# EAGLE library part 74HC4050D,653 (library 74HC4050D_653)
NEXPERIA - 74HC4050D,653 - LEVEL SHIFTER, NON INVERTING, SOIC-16 Source: Datasheet
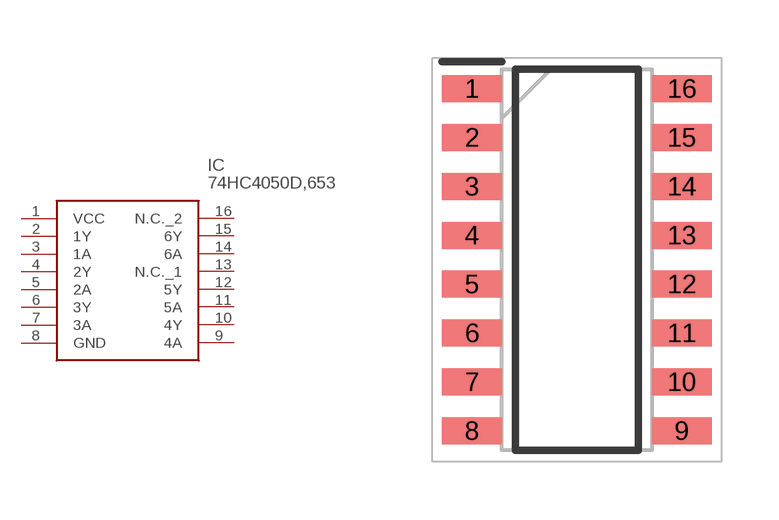
[diagram p0: symbol with the pads of SOIC127P600X175-16N; footprint SOIC127P600X175-16N]

Designator prefix IC

## 74HC4050D,653 (Description: NEXPERIA - 74HC4050D,653 - LEVEL SHIFTER, NON INVERTING, SOIC-16; Height: 1.75mm; Manufacturer_Name: Nexperia; Manufacturer_Part_Number: 74HC4050D,653; Mouser_Part_Number: 771-74HC4050D-T; Mouser_Price-Stock: https://www.mouser.co.uk/ProductDetail/Nexperia/74HC4050D653?qs=P62ublwmbi%2FIblpTHxAIPw%3D%3D)  [SOIC127P600X175-16N]
1  VCC
2  1Y
3  1A
4  2Y
5  2A
6  3Y
7  3A
8  GND
9  4A
10  4Y
11  5A
12  5Y
13  N.C._1
14  6A
15  6Y
16  N.C._2

## Footprint SOIC127P600X175-16N (pad centres in mm)
SO16 (SOT109-1)
smd 1.55 x 0.7: 1 -2.725,4.445; 2 -2.725,3.175; 3 -2.725,1.905; 4 -2.725,0.635; 5 -2.725,-0.635; 6 -2.725,-1.905; 7 -2.725,-3.175; 8 -2.725,-4.445; 9 2.725,-4.445; 10 2.725,-3.175; 11 2.725,-1.905; 12 2.725,-0.635; 13 2.725,0.635; 14 2.725,1.905; 15 2.725,3.175; 16 2.725,4.445